# Altium footprint library 天线.PcbLib: 1 footprints
Each footprint in its own frame and in the unit in brackets; x right, y up, seen from the top. Pads: shape width x height; smd on the part's side, far side on the other; paste and mask are expansions set on the pad; w line width, h text height; cw(c..) or ccw(c..) is an arc to the next point about the centre after c.
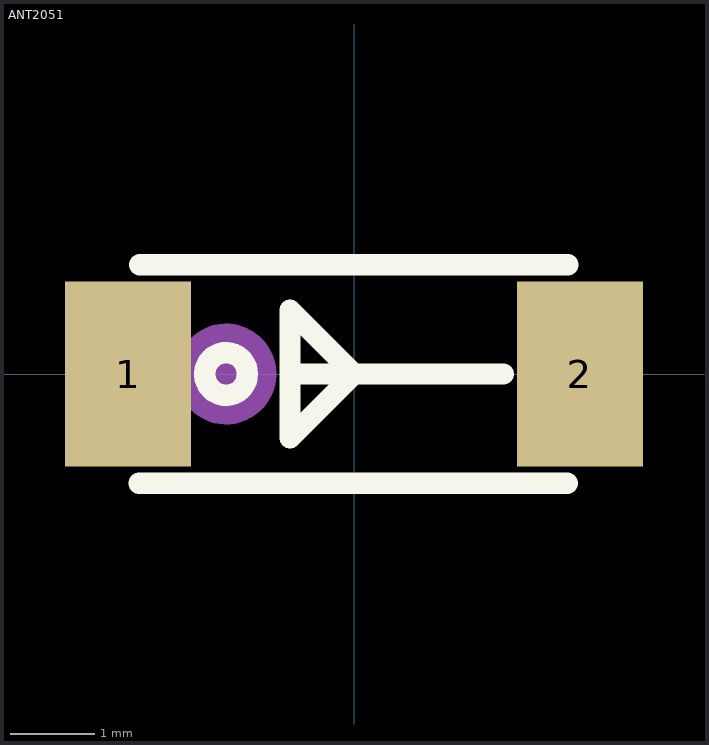
[diagram p0: the footprint, top view; thin cyan lines are the x and y axes]

## ANT2051 [mm]
pads (2):
  rect 1.5x2.2 smd: 1(-2.69,0) 2(2.69,0)
Top Overlay:
  circle w0.254: c-1.524,0 r0.254
  lines w0.254: -2.56,-1.3 2.539,-1.3 ; -2.55,1.3 2.55,1.3 ; -0.762,0 1.778,0 ; -0.762,-0.762 -0.762,0.762 0,0 -0.762,-0.762
Mechanical 15:
  circle w0.6: c-1.524,0 r0.3
3D body "123.stp": height 1.32, standoff -0.01, extent -2.573,-0.911 2.542,0.935